# EAGLE library part FT232R (library IC)
The FT232R is a USB to serial UART interface with the following advanced features: Data transfer rates from 300 baud to 3 Mbaud (RS422, RS485, RS232 ) at TTL levels. 128 byte receive buffer and 256 byte transmit buffer utilising buffer smoothing technology to allow for high data throughput. FTDI?s royalty-free Virtual Com Port (VCP) and Direct (D2XX) drivers eliminate the requirement
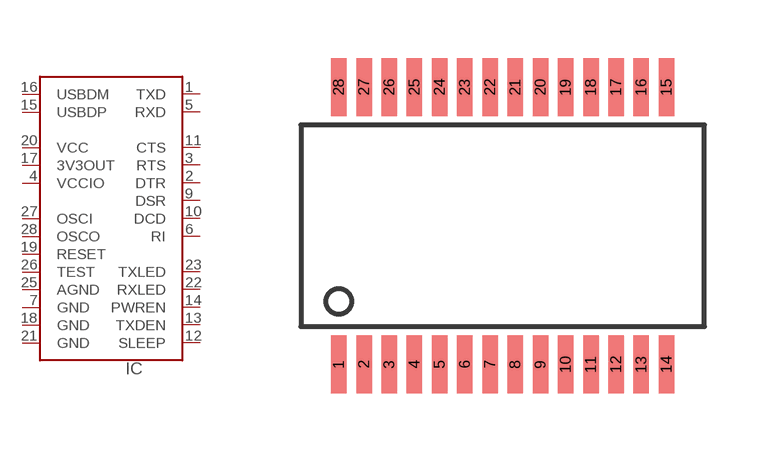
[diagram p182: symbol with the pads of SSOP28L; footprint SSOP28L]

Designator prefix IC

## FT232R  [SSOP28L]
1  TXD  out
2  DTR  out
3  RTS  out
4  VCCIO  pwr
5  RXD  in
6  RI  in
7  GND  pwr
9  DSR  in
10  DCD  in
11  CTS  in
12  SLEEP  in
13  TXDEN  in
14  PWREN  in
15  USBDP
16  USBDM
17  3V3OUT  out
18  GND  pwr
19  RESET  in
20  VCC  pwr
21  GND  pwr
22  RXLED  in
23  TXLED  in
25  AGND  pwr
26  TEST  in
27  OSCI  in
28  OSCO  out

## Footprint SSOP28L (pad centres in mm)
28 pin SSOP, 0.65mm lead pitch
smd 0.4 x 1.5: 1 -4.225,-3.575; 2 -3.575,-3.575; 3 -2.925,-3.575; 4 -2.275,-3.575; 5 -1.625,-3.575; 6 -0.975,-3.575; 7 -0.325,-3.575; 8 0.325,-3.575; 9 0.975,-3.575; 10 1.625,-3.575; 11 2.275,-3.575; 12 2.925,-3.575; 13 3.575,-3.575; 14 4.225,-3.575; 15 4.225,3.575; 16 3.575,3.575; 17 2.925,3.575; 18 2.275,3.575; 19 1.625,3.575; 20 0.975,3.575; 21 0.325,3.575; 22 -0.325,3.575; 23 -0.975,3.575; 24 -1.625,3.575; 25 -2.275,3.575; 26 -2.925,3.575; 27 -3.575,3.575; 28 -4.225,3.575